# Altium schematic symbol library C3216X5R0J226M085AC.SchLib: 1 symbol
Pins are listed as number, name and electrical type; pins without a type are passive.

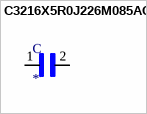
[diagram p0: symbol C3216X5R0J226M085AC]

## C3216X5R0J226M085AC
designator C
22ÂµF Â±20% 6.3V Ceramic Capacitor X5R 1206 (3216 Metric); MP: C3216X5R0J226M085AC; MF: TDK; SnapEDA_Link: https://www.snapeda.com/parts/C3216X5R0J226M085AC/TDK/view-part/1101072/?ref=snap; Price: None; Availability: Unavailable; Package: 3216 TDK; Value: *
footprint CAPC3216X100N
pins: 1, 2